# Altium footprint library 7_seg.PcbLib: 2 footprints
Each footprint in its own frame and in the unit in brackets; x right, y up, seen from the top. Pads: shape width x height; smd on the part's side, far side on the other; paste and mask are expansions set on the pad; w line width, h text height; cw(c..) or ccw(c..) is an arc to the next point about the centre after c.
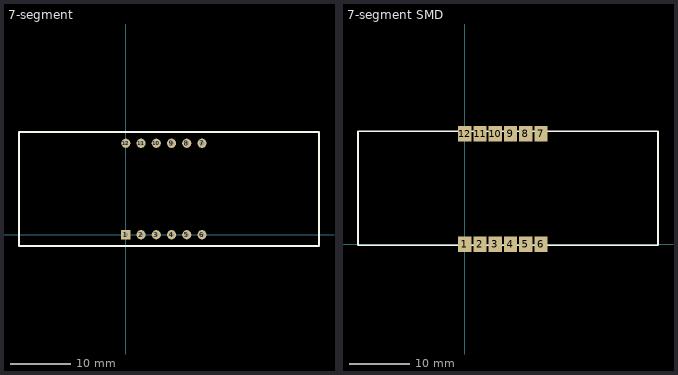
[diagram p0: the footprints below, top view; thin cyan lines are the x and y axes]

## 7-segment [mil]
pads (12):
  rect 60x60 hole 30: 1(0,0)
  round 60 hole 30: 2(100,0) 3(200,0) 4(300,0) 5(400,0) 6(500,0) 7(500,600) 8(400,600) 9(300,600) 10(200,600) 11(100,600) 12(0,600)
Top Overlay:
  lines w10: -700.79,-74.02 -700.79,674.02 1267.72,674.02 1267.72,-74.02 -700.79,-74.02

## 7-segment SMD [mm]
pads (12):
  rect 2.2x2.6 smd: 1(0,0) 2(2.54,0) 3(5.08,0) 4(7.62,0) 5(10.16,0) 6(12.7,0) 7(12.7,18.4) 8(10.16,18.4) 9(7.62,18.4) 10(5.08,18.4) 11(2.54,18.4) 12(0,18.4)
Top Overlay:
  lines w0.254: -17.8,-0.2 32.2,-0.2 32.2,18.8 -17.8,18.8 -17.8,-0.2